# Altium integrated library Altium_WR-DC (rev22a).IntLib: 18 symbols
Pins are listed as number, name and electrical type; pins without a type are passive.

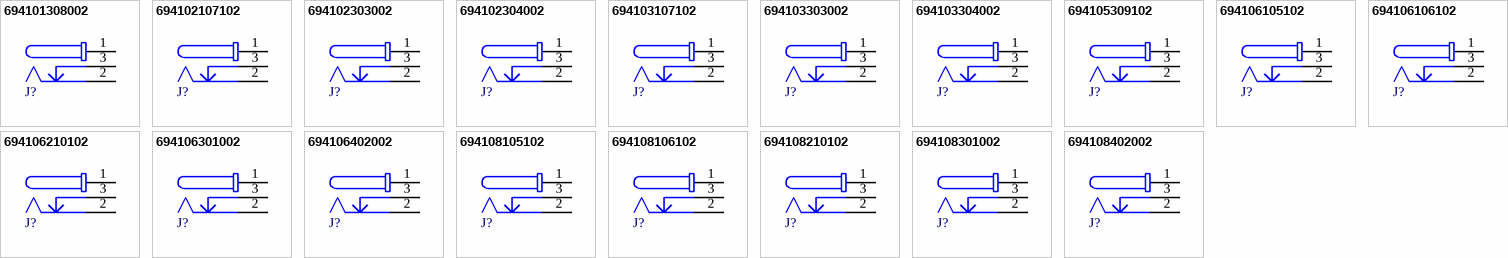
[diagram p0: symbols 694101308002 to 694108402002]

## 694101308002
designator J?  (value not drawn)
WR-DC DC Power Jack Connector, Male, Right Angled, 12V, 2A; Manufacturer: Wurth Elektronik; Opening Diameter: 2.8mm; Plug Inner Diameter: 0.75mm; Plug Outer Diameter: 2.35mm; ComponentLink1Description: Website Link; ComponentLink1URL: https://www.we-online.com/redexpert/article/694101308002?ad; ComponentLink2Description: Datasheet Link; ComponentLink2URL: https://www.we-online.com/redexpert/spec/694101308002?ad; Manufacturer Part Number: 694101308002; Category: DC Power Jack Connector; Match Code: WR-DC; Mount: Through Hole; Operating Temperature Max: 85°C; Operating Temperature Min: -40°C; Packaging: Bag; Gender: Male; Orientation: Right Angled; Rated Current: 2A; Working Voltage: 12V
footprint 694101308002
pins: 1, 2, 3

## 694102107102
designator J?  (value not drawn)
WR-DC DC Power Jack Connector, Male, Right Angled, 18V, 5A; Manufacturer: Wurth Elektronik; Opening Diameter: 3.9mm; Plug Inner Diameter: 1.05mm; Plug Outer Diameter: 3.5mm; ComponentLink1Description: Website Link; ComponentLink1URL: https://www.we-online.com/redexpert/article/694102107102?ad; ComponentLink2Description: Datasheet Link; ComponentLink2URL: https://www.we-online.com/redexpert/spec/694102107102?ad; Manufacturer Part Number: 694102107102; Category: DC Power Jack Connector; Match Code: WR-DC; Mount: Surface Mount; Operating Temperature Max: 85°C; Operating Temperature Min: -40°C; Packaging: Tape and Reel; Gender: Male; Orientation: Right Angled; Rated Current: 5A; Working Voltage: 18V
footprint 694102107102
pins: 1, 2, 3

## 694102303002
designator J?  (value not drawn)
WR-DC DC Power Jack Connector, Male, Right Angled, 30V, 2A; Manufacturer: Wurth Elektronik; Opening Diameter: 4.2mm; Plug Inner Diameter: 1.05mm; Plug Outer Diameter: 3.5mm; ComponentLink1Description: Website Link; ComponentLink1URL: https://www.we-online.com/redexpert/article/694102303002?ad; ComponentLink2Description: Datasheet Link; ComponentLink2URL: https://www.we-online.com/redexpert/spec/694102303002?ad; Manufacturer Part Number: 694102303002; Category: DC Power Jack Connector; Match Code: WR-DC; Mount: Through Hole; Operating Temperature Max: 85°C; Operating Temperature Min: -40°C; Packaging: Bag; Gender: Male; Orientation: Right Angled; Rated Current: 2A; Working Voltage: 30V
footprint 694102303002
pins: 1, 2, 3

## 694102304002
designator J?  (value not drawn)
WR-DC DC Power Jack Connector, Male, Right Angled, 20V, 2A; Manufacturer: Wurth Elektronik; Opening Diameter: 3.8mm; Plug Inner Diameter: 1.05mm; Plug Outer Diameter: 3.5mm; ComponentLink1Description: Website Link; ComponentLink1URL: https://www.we-online.com/redexpert/article/694102304002?ad; ComponentLink2Description: Datasheet Link; ComponentLink2URL: https://www.we-online.com/redexpert/spec/694102304002?ad; Manufacturer Part Number: 694102304002; Category: DC Power Jack Connector; Match Code: WR-DC; Mount: Through Hole; Operating Temperature Max: 85°C; Operating Temperature Min: -40°C; Packaging: Tray; Gender: Male; Orientation: Right Angled; Rated Current: 2A; Working Voltage: 20V
footprint 694102304002
pins: 1, 2, 3

## 694103107102
designator J?  (value not drawn)
WR-DC DC Power Jack Connector, Male, Right Angled, 18V, 5A; Manufacturer: Wurth Elektronik; Opening Diameter: 3.9mm; Plug Inner Diameter: 1.35mm; Plug Outer Diameter: 3.5mm; ComponentLink1Description: Website Link; ComponentLink1URL: https://www.we-online.com/redexpert/article/694103107102?ad; ComponentLink2Description: Datasheet Link; ComponentLink2URL: https://www.we-online.com/redexpert/spec/694103107102?ad; Manufacturer Part Number: 694103107102; Category: DC Power Jack Connector; Match Code: WR-DC; Mount: Surface Mount; Operating Temperature Max: 85°C; Operating Temperature Min: -40°C; Packaging: Tape and Reel; Gender: Male; Orientation: Right Angled; Rated Current: 5A; Working Voltage: 18V
footprint 694103107102
pins: 1, 2, 3

## 694103303002
designator J?  (value not drawn)
WR-DC DC Power Jack Connector, Male, Right Angled, 30V, 2A; Manufacturer: Wurth Elektronik; Opening Diameter: 4.2mm; Plug Inner Diameter: 1.35mm; Plug Outer Diameter: 3.5mm; ComponentLink1Description: Website Link; ComponentLink1URL: https://www.we-online.com/redexpert/article/694103303002?ad; ComponentLink2Description: Datasheet Link; ComponentLink2URL: https://www.we-online.com/redexpert/spec/694103303002?ad; Manufacturer Part Number: 694103303002; Category: DC Power Jack Connector; Match Code: WR-DC; Mount: Through Hole; Operating Temperature Max: 85°C; Operating Temperature Min: -40°C; Packaging: Bag; Gender: Male; Orientation: Right Angled; Rated Current: 2A; Working Voltage: 30V
footprint 694103303002
pins: 1, 2, 3

## 694103304002
designator J?  (value not drawn)
WR-DC DC Power Jack Connector, Male, Right Angled, 20V, 2A; Manufacturer: Wurth Elektronik; Opening Diameter: 3.8mm; Plug Inner Diameter: 1.35mm; Plug Outer Diameter: 3.5mm; ComponentLink1Description: Website Link; ComponentLink1URL: https://www.we-online.com/redexpert/article/694103304002?ad; ComponentLink2Description: Datasheet Link; ComponentLink2URL: https://www.we-online.com/redexpert/spec/694103304002?ad; Manufacturer Part Number: 694103304002; Category: DC Power Jack Connector; Match Code: WR-DC; Mount: Through Hole; Operating Temperature Max: 85°C; Operating Temperature Min: -40°C; Packaging: Tray; Gender: Male; Orientation: Right Angled; Rated Current: 2A; Working Voltage: 20V
footprint 694103304002
pins: 1, 2, 3

## 694105309102
designator J?  (value not drawn)
WR-DC DC Power Jack Connector, Male, Right Angled, 20V, 5.5A; Manufacturer: Wurth Elektronik; Opening Diameter: 4.93mm; Plug Inner Diameter: 1.75mm; Plug Outer Diameter: 4.75mm; ComponentLink1Description: Website Link; ComponentLink1URL: https://www.we-online.com/redexpert/article/694105309102?ad; ComponentLink2Description: Datasheet Link; ComponentLink2URL: https://www.we-online.com/redexpert/spec/694105309102?ad; Manufacturer Part Number: 694105309102; Category: DC Power Jack Connector; Match Code: WR-DC; Mount: Through Hole; Operating Temperature Max: 85°C; Operating Temperature Min: -40°C; Packaging: Tape and Reel; Gender: Male; Orientation: Right Angled; Rated Current: 5.5A; Working Voltage: 20V
footprint 694105309102
pins: 1, 2, 3

## 694106105102
designator J?  (value not drawn)
WR-DC DC Power Jack Connector, Male, Right Angled, 24V, 5A; Manufacturer: Wurth Elektronik; Opening Diameter: 6.4mm; Plug Inner Diameter: 2.05mm; Plug Outer Diameter: 5.5mm; ComponentLink1Description: Website Link; ComponentLink1URL: https://www.we-online.com/redexpert/article/694106105102?ad; ComponentLink2Description: Datasheet Link; ComponentLink2URL: https://www.we-online.com/redexpert/spec/694106105102?ad; Manufacturer Part Number: 694106105102; Category: DC Power Jack Connector; Match Code: WR-DC; Mount: Surface Mount; Operating Temperature Max: 85°C; Operating Temperature Min: -40°C; Packaging: Tape and Reel; Gender: Male; Orientation: Right Angled; Rated Current: 5A; Working Voltage: 24V
footprint 694106105102
pins: 1, 2, 3

## 694106106102
designator J?  (value not drawn)
WR-DC DC Power Jack Connector, Male, Right Angled, 24V, 5A; Manufacturer: Wurth Elektronik; Opening Diameter: 6.4mm; Plug Inner Diameter: 2.05mm; Plug Outer Diameter: 5.5mm; ComponentLink1Description: Website Link; ComponentLink1URL: https://www.we-online.com/redexpert/article/694106106102?ad; ComponentLink2Description: Datasheet Link; ComponentLink2URL: https://www.we-online.com/redexpert/spec/694106106102?ad; Manufacturer Part Number: 694106106102; Category: DC Power Jack Connector; Match Code: WR-DC; Mount: Surface Mount; Operating Temperature Max: 85°C; Operating Temperature Min: -40°C; Packaging: Tape and Reel; Gender: Male; Orientation: Right Angled; Rated Current: 5A; Working Voltage: 24V
footprint 694106106102
pins: 1, 2, 3

## 694106210102
designator J?  (value not drawn)
WR-DC DC Power Jack Connector, Male, Vertical, 30V, 3.5A; Manufacturer: Wurth Elektronik; Opening Diameter: 6.4mm; Plug Inner Diameter: 2.05mm; Plug Outer Diameter: 5.5mm; ComponentLink1Description: Website Link; ComponentLink1URL: https://www.we-online.com/redexpert/article/694106210102?ad; ComponentLink2Description: Datasheet Link; ComponentLink2URL: https://www.we-online.com/redexpert/spec/694106210102?ad; Manufacturer Part Number: 694106210102; Category: DC Power Jack Connector; Match Code: WR-DC; Mount: Surface Mount; Operating Temperature Max: 85°C; Operating Temperature Min: -20°C; Packaging: Tape and Reel; Gender: Male; Orientation: Vertical; Rated Current: 3.5A; Working Voltage: 30V
footprint 694106210102
pins: 1, 2, 3

## 694106301002
designator J?  (value not drawn)
WR-DC DC Power Jack Connector, Male, Right Angled, 24V, 5A; Manufacturer: Wurth Elektronik; Opening Diameter: 6.4mm; Plug Inner Diameter: 2.05mm; Plug Outer Diameter: 5.5mm; ComponentLink1Description: Website Link; ComponentLink1URL: https://www.we-online.com/redexpert/article/694106301002?ad; ComponentLink2Description: Datasheet Link; ComponentLink2URL: https://www.we-online.com/redexpert/spec/694106301002?ad; Manufacturer Part Number: 694106301002; Category: DC Power Jack Connector; Match Code: WR-DC; Mount: Through Hole; Operating Temperature Max: 85°C; Operating Temperature Min: -40°C; Packaging: Bag; Gender: Male; Orientation: Right Angled; Rated Current: 5A; Working Voltage: 24V
footprint 694106301002
pins: 1, 2, 3

## 694106402002
designator J?  (value not drawn)
WR-DC DC Power Jack Connector, Male, Vertical, 20V, 3A; Manufacturer: Wurth Elektronik; Opening Diameter: 6.4mm; Plug Inner Diameter: 2.05mm; Plug Outer Diameter: 5.5mm; ComponentLink1Description: Website Link; ComponentLink1URL: https://www.we-online.com/redexpert/article/694106402002?ad; ComponentLink2Description: Datasheet Link; ComponentLink2URL: https://www.we-online.com/redexpert/spec/694106402002?ad; Manufacturer Part Number: 694106402002; Category: DC Power Jack Connector; Match Code: WR-DC; Mount: Through Hole; Operating Temperature Max: 85°C; Operating Temperature Min: -40°C; Packaging: Bag; Gender: Male; Orientation: Vertical; Rated Current: 3A; Working Voltage: 20V
footprint 694106402002
pins: 1, 2, 3

## 694108105102
designator J?  (value not drawn)
WR-DC DC Power Jack Connector, Male, Right Angled, 24V, 5A; Manufacturer: Wurth Elektronik; Opening Diameter: 6.4mm; Plug Inner Diameter: 2.55mm; Plug Outer Diameter: 5.5mm; ComponentLink1Description: Website Link; ComponentLink1URL: https://www.we-online.com/redexpert/article/694108105102?ad; ComponentLink2Description: Datasheet Link; ComponentLink2URL: https://www.we-online.com/redexpert/spec/694108105102?ad; Manufacturer Part Number: 694108105102; Category: DC Power Jack Connector; Match Code: WR-DC; Mount: Surface Mount; Operating Temperature Max: 85°C; Operating Temperature Min: -40°C; Packaging: Tape and Reel; Gender: Male; Orientation: Right Angled; Rated Current: 5A; Working Voltage: 24V
footprint 694108105102
pins: 1, 2, 3

## 694108106102
designator J?  (value not drawn)
WR-DC DC Power Jack Connector, Male, Right Angled, 24V, 5A; Manufacturer: Wurth Elektronik; Opening Diameter: 6.4mm; Plug Inner Diameter: 2.55mm; Plug Outer Diameter: 5.5mm; ComponentLink1Description: Website Link; ComponentLink1URL: https://www.we-online.com/redexpert/article/694108106102?ad; ComponentLink2Description: Datasheet Link; ComponentLink2URL: https://www.we-online.com/redexpert/spec/694108106102?ad; Manufacturer Part Number: 694108106102; Category: DC Power Jack Connector; Match Code: WR-DC; Mount: Surface Mount; Operating Temperature Max: 85°C; Operating Temperature Min: -40°C; Packaging: Tape and Reel; Gender: Male; Orientation: Right Angled; Rated Current: 5A; Working Voltage: 24V
footprint 694108106102
pins: 1, 2, 3

## 694108210102
designator J?  (value not drawn)
WR-DC DC Power Jack Connector, Male, Vertical, 30V, 3.5A; Manufacturer: Wurth Elektronik; Opening Diameter: 6.4mm; Plug Inner Diameter: 2.55mm; Plug Outer Diameter: 5.5mm; ComponentLink1Description: Website Link; ComponentLink1URL: https://www.we-online.com/redexpert/article/694108210102?ad; ComponentLink2Description: Datasheet Link; ComponentLink2URL: https://www.we-online.com/redexpert/spec/694108210102?ad; Manufacturer Part Number: 694108210102; Category: DC Power Jack Connector; Match Code: WR-DC; Mount: Surface Mount; Operating Temperature Max: 85°C; Operating Temperature Min: -20°C; Packaging: Tape and Reel; Gender: Male; Orientation: Vertical; Rated Current: 3.5A; Working Voltage: 30V
footprint 694108210102
pins: 1, 2, 3

## 694108301002
designator J?  (value not drawn)
WR-DC DC Power Jack Connector, Male, Right Angled, 24V, 5A; Manufacturer: Wurth Elektronik; Opening Diameter: 6.4mm; Plug Inner Diameter: 2.55mm; Plug Outer Diameter: 5.5mm; ComponentLink1Description: Website Link; ComponentLink1URL: https://www.we-online.com/redexpert/article/694108301002?ad; ComponentLink2Description: Datasheet Link; ComponentLink2URL: https://www.we-online.com/redexpert/spec/694108301002?ad; Manufacturer Part Number: 694108301002; Category: DC Power Jack Connector; Match Code: WR-DC; Mount: Through Hole; Operating Temperature Max: 85°C; Operating Temperature Min: -40°C; Packaging: Bag; Gender: Male; Orientation: Right Angled; Rated Current: 5A; Working Voltage: 24V
footprint 694108301002
pins: 1, 2, 3

## 694108402002
designator J?  (value not drawn)
WR-DC DC Power Jack Connector, Male, Vertical, 20V, 3A; Manufacturer: Wurth Elektronik; Opening Diameter: 6.4mm; Plug Inner Diameter: 2.55mm; Plug Outer Diameter: 5.5mm; ComponentLink1Description: Website Link; ComponentLink1URL: https://www.we-online.com/redexpert/article/694108402002?ad; ComponentLink2Description: Datasheet Link; ComponentLink2URL: https://www.we-online.com/redexpert/spec/694108402002?ad; Manufacturer Part Number: 694108402002; Category: DC Power Jack Connector; Match Code: WR-DC; Mount: Through Hole; Operating Temperature Max: 85°C; Operating Temperature Min: -40°C; Packaging: Bag; Gender: Male; Orientation: Vertical; Rated Current: 3A; Working Voltage: 20V
footprint 694108402002
pins: 1, 2, 3